# EAGLE library part 74099-19 (library con-molex-c-grid)
C-Grid SL
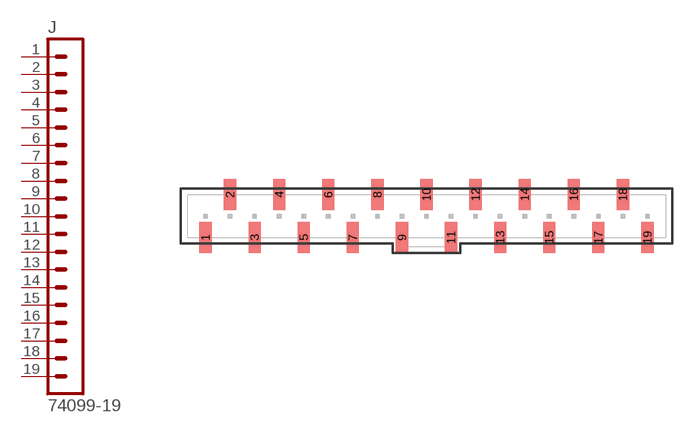
[diagram p53: symbol with the pads of 74099-19; footprint 74099-19]

Designator prefix J

## 74099-19  [74099-19]
1  1  pas
2  2  pas
3  3  pas
4  4  pas
5  5  pas
6  6  pas
7  7  pas
8  8  pas
9  9  pas
10  10  pas
11  11  pas
12  12  pas
13  13  pas
14  14  pas
15  15  pas
16  16  pas
17  17  pas
18  18  pas
19  19  pas

## Footprint 74099-19 (pad centres in mm)
C-Grid SL vertical, SMD
smd 1.27 x 3.175: 1 -22.86,-2.223; 2 -20.32,2.223; 3 -17.78,-2.223; 4 -15.24,2.223; 5 -12.7,-2.223; 6 -10.16,2.223; 7 -7.62,-2.223; 8 -5.08,2.223; 9 -2.54,-2.223; 10 0,2.223; 11 2.54,-2.223; 12 5.08,2.223; 13 7.62,-2.223; 14 10.16,2.223; 15 12.7,-2.223; 16 15.24,2.223; 17 17.78,-2.223; 18 20.32,2.223; 19 22.86,-2.223